# Altium schematic symbol library Varistor.Schlib: 1 symbol
Pins are listed as number, name and electrical type; pins without a type are passive.

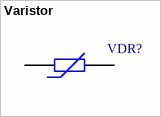
[diagram p0: symbol Varistor]

## Varistor
designator VDR?
footprint VDR-7.5mm
pins: 1, 2